# Altium schematic symbol library Linear Reg 5pin.SchLib: 1 symbol
Pins are listed as number, name and electrical type; pins without a type are passive.

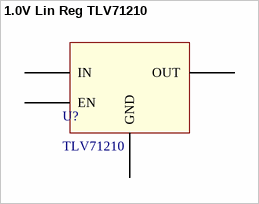
[diagram p0: symbol 1.0V Lin Reg TLV71210]

## 1.0V Lin Reg TLV71210
designator U?, comment TLV71210
1.0V Linear Regulator
footprint TLV71210 (1.0V Linear Regulator)
pins: 1 IN, 2 GND, 3 EN, 5 OUT